# Altium footprint library Conn_Molex_0473460001_eec_0.PcbLib: 1 footprints
Each footprint in its own frame and in the unit in brackets; x right, y up, seen from the top. Pads: shape width x height; smd on the part's side, far side on the other; paste and mask are expansions set on the pad; w line width, h text height; cw(c..) or ccw(c..) is an arc to the next point about the centre after c.
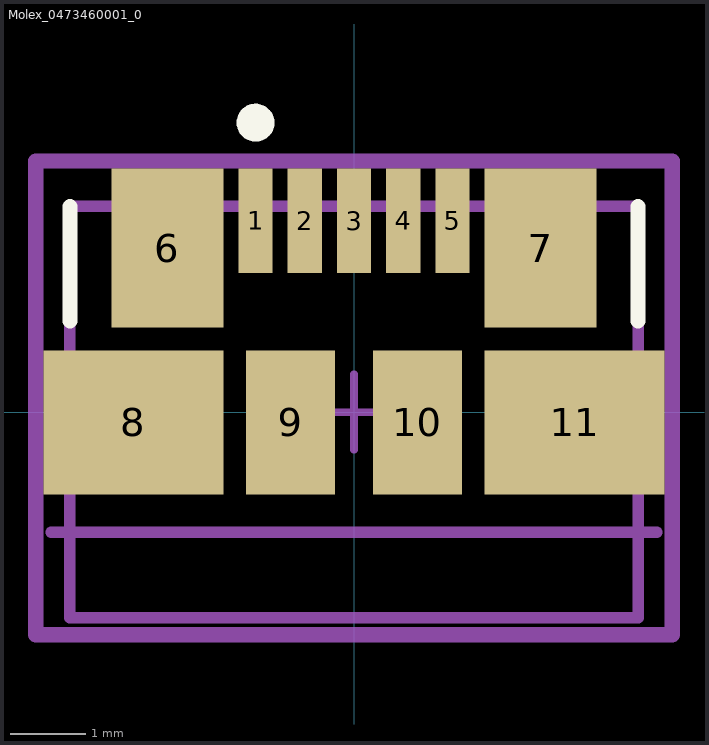
[diagram p0: the footprint, top view; thin cyan lines are the x and y axes]

## Molex_0473460001_0 [mm]
pads (11):
  rect 0.45x1.38 smd paste+0 mask+0: 1(-1.3,2.525) 2(-0.65,2.525) 3(0,2.525) 4(0.65,2.525) 5(1.3,2.525)
  rect 1.475x2.1 smd paste+0 mask+0: 6(-2.462,2.165) 7(2.462,2.165)
  rect 2.375x1.9 smd paste+0 mask+0: 8(-2.913,-0.135) 11(2.913,-0.135)
  rect 1.175x1.9 smd paste+0 mask+0: 9(-0.837,-0.135) 10(0.837,-0.135)
Top Overlay:
  circle w0.25: c-1.3,3.82 r0.125
  lines w0.2: -3.75,1.2 -3.75,2.715 ; 3.75,1.2 3.75,2.715
Mechanical 10:
  lines w0.2: -4.2,-2.94 4.2,-2.94 4.2,3.315 -4.2,3.315 -4.2,-2.94
Mechanical 12:
  lines w0.15: -4,-1.585 4,-1.585 ; -3.75,-2.715 3.75,-2.715 3.75,2.715 -3.75,2.715 -3.75,-2.715
Mechanical 15:
  lines w0.1: -0.5,0 0.5,0 ; 0,-0.5 0,0.5
  lines w0.2: -4.2,-2.94 4.2,-2.94 4.2,3.315 -4.2,3.315 -4.2,-2.94